# Altium footprint library PcbLib1.PcbLib: 7 footprints
Each footprint in its own frame and in the unit in brackets; x right, y up, seen from the top. Pads: shape width x height; smd on the part's side, far side on the other; paste and mask are expansions set on the pad; w line width, h text height; cw(c..) or ccw(c..) is an arc to the next point about the centre after c.
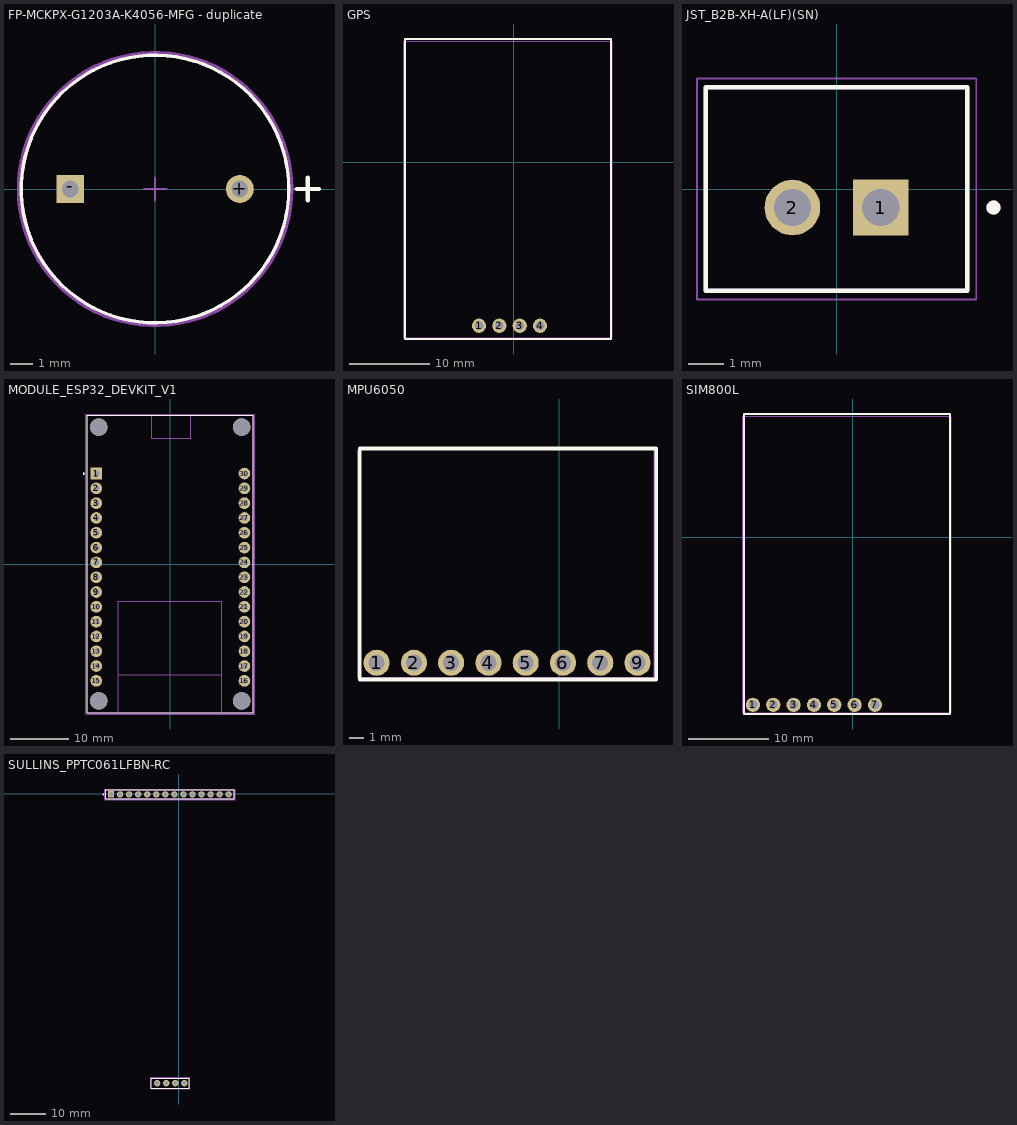
[diagram p0: the footprints below, top view; thin cyan lines are the x and y axes]

## FP-MCKPX-G1203A-K4056-MFG - duplicate [mm]
pads (2):
  round 1.25 hole 0.75 paste-2539.97 mask+0: +(3.8,0)
  rect 1.25x1.25 hole 0.75 paste-2539.97 mask+0: -(-3.8,0)
Top Overlay:
  circle w0.15: c0,0 r6
  lines w0.2: 6.35,0 7.35,0 ; 6.85,-0.5 6.85,0.5
Top 3D Body:
  circle w0.15: c0,0 r6
Top Courtyard:
  lines w0.2: -6.1,0 ccw(c0,0) 6.1,0 ccw(c0,0) -6.1,0
Top Assembly:
  text ".Designator" at 0,0.188 h1
Top Component Center:
  lines w0.1: -0.5,0 0.5,0 ; 0,-0.5 0,0.5
3D body "Speak_Multicomp_Pro_MCKPX-G1203A-K4056_eec.STEP": height 0.25, standoff 0, extent -6.1,-6.1 6.1,6.1

## GPS [mil]
pads (4):
  round 70 hole 43: 1(-170,-805) 2(-70,-805) 3(30,-805) 4(130,-805)
Top Overlay:
  lines w10: -535,-870 480,-870 480,605 -535,605 -535,-870
Mechanical 15:
  lines w4: -540,591.69 -540,-865 483.62,-865 ; -540,595 483.62,595 ; 485,-865 485,591.69

## JST_B2B-XH-A(LF)(SN) [mm]
height 7
pads (2):
  rect 1.575x1.575 / inner round 1.575 / far side rect 1.575x1.575 hole 1.05: 1(1.25,-0.525)
  round 1.575 hole 1.05: 2(-1.25,-0.525)
Top Overlay:
  circle w0.2: c4.44,-0.525 r0.1
  lines w0.127: -3.7,-2.875 -3.7,2.875 3.7,2.875 3.7,-2.875 -3.7,-2.875
Mechanical 13:
  circle w0.2: c4.44,-0.525 r0.1
  lines w0.127: -3.7,-2.875 -3.7,2.875 3.7,2.875 3.7,-2.875 -3.7,-2.875
Mechanical 15:
  lines w0.05: -3.95,-3.125 3.95,-3.125 3.95,3.125 -3.95,3.125 -3.95,-3.125
3D body "step_temp.STEP": height 7, standoff -3.4, extent -3.7,-2.875 3.7,2.875

## MODULE_ESP32_DEVKIT_V1 [mm]
height 6.8
pads (34):
  rect 2x2 / inner round 2 / far side rect 2x2 hole 1.02: 1(-12.7,15.515)
  round 2 hole 1.02: 2(-12.7,12.975) 3(-12.7,10.435) 4(-12.7,7.895) 5(-12.7,5.355) 6(-12.7,2.815) 7(-12.7,0.275) 8(-12.7,-2.265) 9(-12.7,-4.805) 10(-12.7,-7.345) 11(-12.7,-9.885) 12(-12.7,-12.425) 13(-12.7,-14.965) 14(-12.7,-17.505) 15(-12.7,-20.045) 16(12.7,-20.045) 17(12.7,-17.505) 18(12.7,-14.965) 19(12.7,-12.425) 20(12.7,-9.885) 21(12.7,-7.345) 22(12.7,-4.805) 23(12.7,-2.265) 24(12.7,0.275) 25(12.7,2.815) 26(12.7,5.355) 27(12.7,7.895) 28(12.7,10.435) 29(12.7,12.975) 30(12.7,15.515)
  round 3 hole 3 unplated: ""(-12.28,-23.475) ""(-12.28,23.475) ""(12.23,-23.475) ""(12.23,23.475)
Top Overlay:
  circle w0.2: c-14.85,15.515 r0.1
  lines w0.127: -14.28,-25.475 -8.91,-25.475 8.78,-25.475 14.23,-25.475 ; -14.28,-25.475 -14.28,25.475 ; -14.28,-25.475 -14.28,25.475 ; -14.28,-25.475 14.23,-25.475 ; -14.28,25.475 -3.211,25.475 3.5,25.475 14.23,25.475 ; -14.28,25.475 14.23,25.475 ; 14.23,-25.475 14.23,25.475 ; 14.23,-25.475 14.23,25.475
Mechanical 13:
  circle w0.2: c-14.85,15.515 r0.1
  lines w0.127: -8.91,-25.475 -8.91,-18.985 ; -8.91,-25.475 8.78,-25.475 ; -8.91,-25.475 -14.28,-25.475 -14.28,25.475 -3.211,25.475 ; -8.91,-18.985 8.78,-18.985 ; -8.91,-18.985 -8.91,-6.355 8.78,-6.355 8.78,-18.985 ; -3.211,25.475 -3.211,21.585 3.5,21.585 3.5,25.475 ; -3.211,25.475 3.5,25.475 ; 3.5,25.475 14.23,25.475 14.23,-25.475 8.78,-25.475 ; 8.78,-25.475 8.78,-18.985
Mechanical 15:
  lines w0.05: -14.53,-25.725 14.48,-25.725 14.48,25.725 -14.53,25.725 -14.53,-25.725
3D body "step_temp.STEP": height 7.05, standoff -6, extent -14.1,-25.9 14.1,26.55

## MPU6050 [mil]
pads (8):
  round 70 hole 43: 1(-490,-825) 2(-390,-825) 3(-290,-825) 4(-190,-825) 5(-90,-825) 6(10,-825) 7(110,-825) 9(210,-825)
Top Overlay:
  lines w10: -535,-870 -535,-250 260,-250 260,-870 -535,-870
Mechanical 15:
  lines w4: -540,-255 -540,-865 260,-865 ; -535,-250 265,-250 ; 255,-865 255,-255

## SIM800L [mil]
pads (7):
  round 70 hole 43: 1(-490,-825) 2(-390,-825) 3(-290,-825) 4(-190,-825) 5(-90,-825) 6(10,-825) 7(110,-825)
Top Overlay:
  lines w10: -535,-870 -535,605 480,605 480,-870 -535,-870
Mechanical 15:
  lines w4: -540,591.69 -540,-865 483.62,-865 ; -540,595 483.62,595 ; 485,-865 485,591.69

## SULLINS_PPTC061LFBN-RC [mil]
height 334.65
pads (18):
  rect 70x70 hole 50: 1(-750,-10)
  round 70 hole 43: 2(-650,-10) 3(-550,-10) 4(-450,-10) 5(-350,-10) 6(-250,-10) 7(-150,-10) 8(-50,-10) 9(50,-10) 10(150,-10) 11(250,-10) 12(350,-10) 13(450,-10) 14(550,-10) ""(-240,-3200) ""(-140,-3200) ""(-40,-3200) ""(60,-3200)
Top Overlay:
  circle w7.87: c-834.65,-10 r3.94
  lines w5: -809.84,-60 610,-60 610,40 -809.84,40 -809.84,-60
  lines w10: -305,-3255 115,-3255 115,-3145 -305,-3145 -305,-3255
Mechanical 13:
  lines w5: -809.84,-60 610,-60 610,40 -809.84,40 -809.84,-60
Mechanical 15:
  lines w1.97: -819.68,-69.84 -819.68,49.84 620,49.84 620,-69.84 -819.68,-69.84
  lines w4: -310,-3265 -310,-3135 120,-3135 120,-3265 -310,-3265
3D body "step_temp.STEP": height 335, standoff -126, extent -210,-60 410,40
3D body "step_temp.STEP": height 335, standoff -126, extent -10,-60 610,40
3D body "step_temp.STEP": height 335, standoff -126, extent -810,-60 -190,40
3D body "TFT LCD 2.8inch ILI9341.step": height 649.61, standoff 102.36, extent -1083.9,-3180 885,40.91